# Altium schematic symbol library RCS040220R0FKED.SchLib: 1 symbol
Pins are listed as number, name and electrical type; pins without a type are passive.

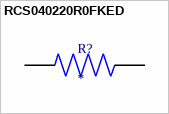
[diagram p0: symbol RCS040220R0FKED]

## RCS040220R0FKED
designator R?
RES SMD 20 OHM 1% 1/5W 0402; MP: RCS040220R0FKED; Package: None; Price: None; Value: *; Availability: Unavailable
footprint RESC1005X40N
pins: 1, 2